# EAGLE library part LDK120 (library ICs)
Low Drop Voltage Regulator ・電圧 - 入力（最大）5.5V ・電圧 - 出力（最小/固定）3.3V ・電流 - 出力 200mA
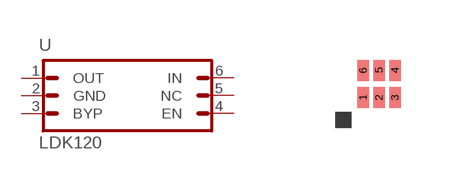
[diagram p1: symbol with the pads of DFN6L; footprint DFN6L]

Designator prefix U

## LDK120PU33R  [DFN6L]
1  OUT  pas
2  GND  pas
3  BYP  pas
4  EN
5  NC  pas
6  IN  pas

## Footprint DFN6L (pad centres in mm)
6-Lead Plastic Dual Flat No Lead Package 1.2 x 1.3 mm Body (DFN)
smd 0.28 x 0.53: 1 -0.4,-0.34; 2 0,-0.34; 3 0.4,-0.34; 4 0.4,0.34; 5 0,0.34; 6 -0.4,0.34